# Altium footprint library MOLEX_430450212.PcbLib: 1 footprints
Each footprint in its own frame and in the unit in brackets; x right, y up, seen from the top. Pads: shape width x height; smd on the part's side, far side on the other; paste and mask are expansions set on the pad; w line width, h text height; cw(c..) or ccw(c..) is an arc to the next point about the centre after c.
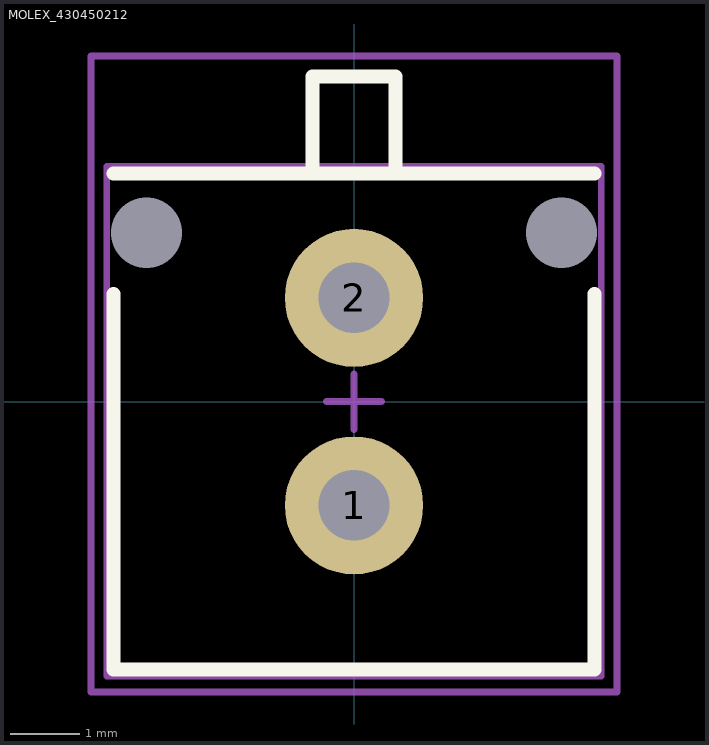
[diagram p0: the footprint, top view; thin cyan lines are the x and y axes]

## MOLEX_430450212 [mm] "MOLEX_430450212"
height 9.91
pads (4):
  round 2 hole 1.02 mask+0.05: 1(0,-1.5) 2(0,1.5)
  round 0 hole 1.02 unplated mask+0.05: ""(-3,2.44) ""(3,2.44)
Top Overlay:
  lines w0.2: -3.475,1.56 -3.475,-3.87 3.475,-3.87 3.475,1.56 ; -3.475,3.3 3.475,3.3 ; -0.6,3.3 -0.6,4.7 0.6,4.7 0.6,3.3
Mechanical 13:
  lines w0.1: -3.575,-3.97 3.575,-3.97 3.575,3.4 -3.575,3.4 -3.575,-3.97
Mechanical 15:
  lines w0.1: -0.4,0 0.4,0 ; 0,-0.4 0,0.4 ; -3.8,-4.2 3.8,-4.2 3.8,5 -3.8,5 -3.8,-4.2
3D body "Term,Header,Vert,2Pin,3mm.stp": height 10.45, standoff -2.64, extent -3.575,-3.94 3.575,4.83